# Altium footprint library SON127P600X100_HS-9N.PcbLib: 1 footprints
Each footprint in its own frame and in the unit in brackets; x right, y up, seen from the top. Pads: shape width x height; smd on the part's side, far side on the other; paste and mask are expansions set on the pad; w line width, h text height; cw(c..) or ccw(c..) is an arc to the next point about the centre after c.
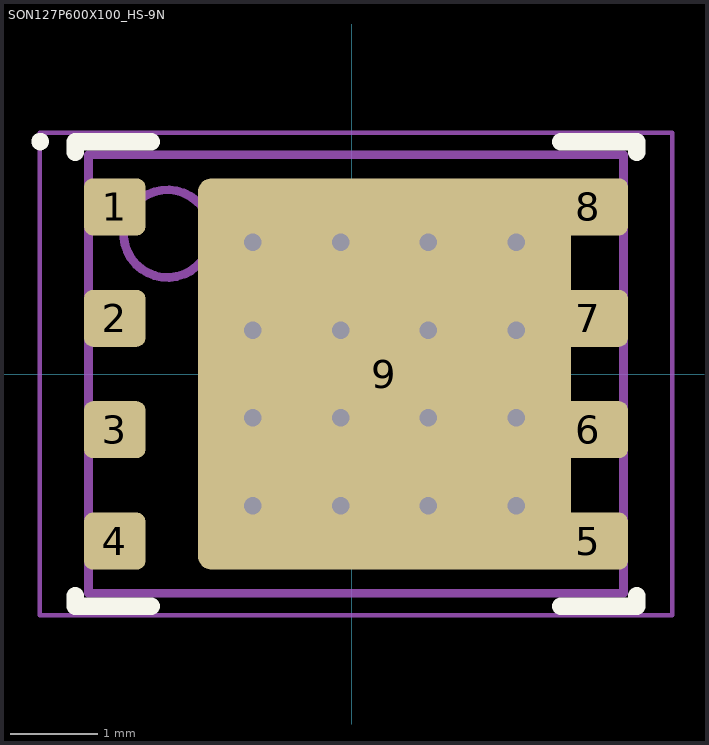
[diagram p0: the footprint, top view; thin cyan lines are the x and y axes]

## SON127P600X100_HS-9N [mm] "SON, 8-Leads, Body 4.90x6.00mm, Pitch 1.27mm, Thermal Pad 3.82x3.58mm, IPC Medium Density"
height 1
pads (9):
  rrect30% 0.7x0.65 smd paste-11 mask+0.05: 1(-2.7,1.905) 2(-2.7,0.635) 3(-2.7,-0.635) 4(-2.7,-1.905)
  rrect30% 0.9x0.65 smd paste-10 mask+0.05: 5(2.7,-1.905) 6(2.7,-0.635) 7(2.7,0.635) 8(2.7,1.905)
  rrect7% 4.25x4.46 smd paste-10 mask+0.05: 9(0.375,0)
via 1.875,-1.5 diameter 0.5 hole 0.2
via 0.875,-1.5 diameter 0.5 hole 0.2
via -0.125,-1.5 diameter 0.5 hole 0.2
via -1.125,-1.5 diameter 0.5 hole 0.2
via 1.875,-0.5 diameter 0.5 hole 0.2
via 0.875,-0.5 diameter 0.5 hole 0.2
via -0.125,-0.5 diameter 0.5 hole 0.2
via -1.125,-0.5 diameter 0.5 hole 0.2
via 1.875,0.5 diameter 0.5 hole 0.2
via 0.875,0.5 diameter 0.5 hole 0.2
via -0.125,0.5 diameter 0.5 hole 0.2
via -1.125,0.5 diameter 0.5 hole 0.2
via 1.875,1.5 diameter 0.5 hole 0.2
via 0.875,1.5 diameter 0.5 hole 0.2
via -0.125,1.5 diameter 0.5 hole 0.2
via -1.125,1.5 diameter 0.5 hole 0.2
Top Overlay:
  circle w0.1: c-3.55,2.65 r0.05
  lines w0.2: -3.15,-2.53 -3.15,-2.65 -2.285,-2.65 ; -3.15,2.53 -3.15,2.65 -2.285,2.65 ; 2.385,-2.65 3.25,-2.65 3.25,-2.53 ; 2.385,2.65 3.25,2.65 3.25,2.53
Top Paste:
  drawing of 12 lines, arcs and shapes, not listed
Top Assembly:
  circle w0.1: c-2.1,1.6 r0.5
  lines w0.1: -3,-2.5 3.1,-2.5 3.1,2.5 -3,2.5 -3,-2.5
Top Courtyard:
  lines w0.05: -3.555,-2.75 3.655,-2.75 3.655,2.75 -3.555,2.75 -3.555,-2.75
  lines w0.1: -0.5,0 0.5,0 ; 0,-0.5 0,0.5
3D body "SON127P600X100_HS-9N.step": height 1, standoff 0, extent -3.1,-2.5 3.1,2.5